# Altium schematic symbol library Schlib.SchLib: 12 symbols
Pins are listed as number, name and electrical type; pins without a type are passive.

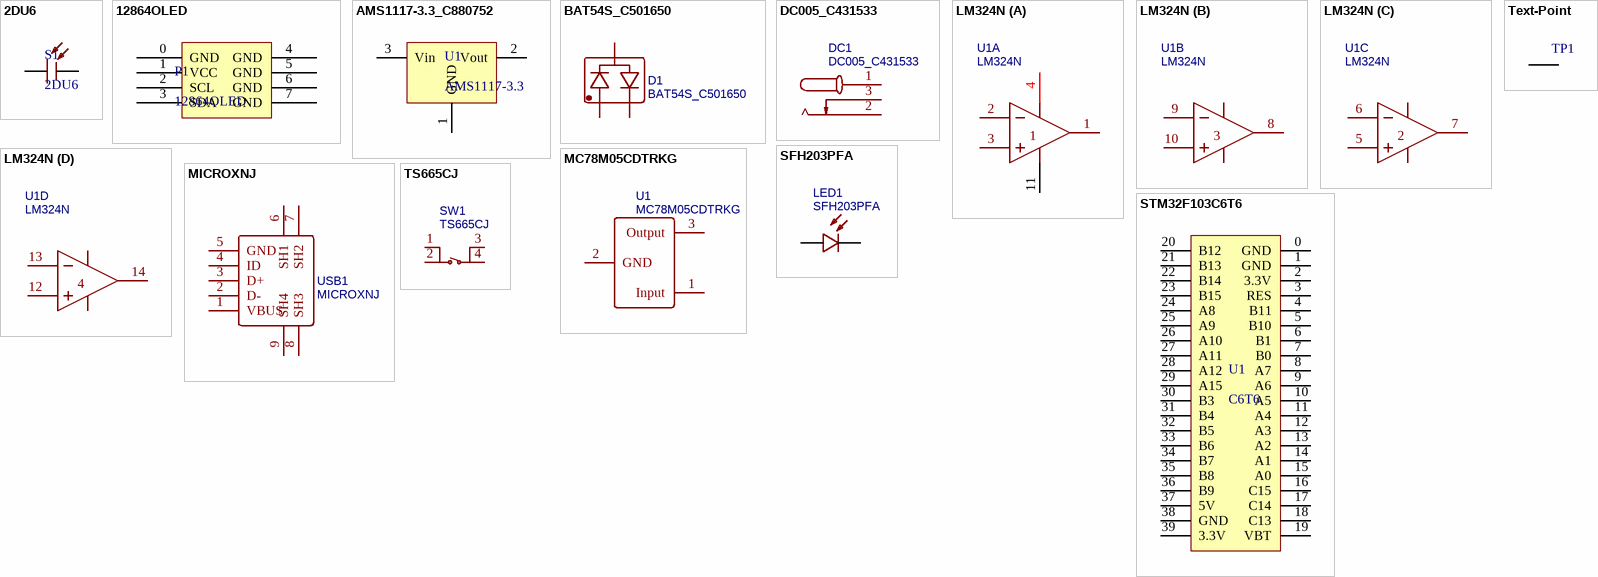
[diagram p0: symbols 2DU6 to TS665CJ]

## 2DU6
designator S1
footprint 2DU6PERSONAL
pins: 1 C, 2 E

## 12864OLED
designator P1
footprint 12864_0.96_OLED
pins: 0 GND, 1 VCC, 2 SCL, 3 SDA, 4 GND, 5 GND, 6 GND, 7 GND

## AMS1117-3.3_C880752
designator U1, comment AMS1117-3.3
footprint SOT-89-3_L4.5-W2.5-P1.50-LS4.2-BR
pins: 1 GND, 2 Vout, 3 Vin

## BAT54S_C501650
designator D1
BOM_Manufacturer: JF; BOM_Manufacturer Part: BAT54S; Contributor: LCSC; BOM_Supplier: LCSC; BOM_Supplier Part: C501650; BOM_JLCPCB Part Class: Extended Part; spicePre: D; spiceSymbolName: BAT54S_C501650
footprint SOT-23-3_L2.9-W1.3-P1.90-LS2.4-BR
pins: 1, 2, 3

## DC005_C431533
designator DC1
BOM_Manufacturer: SHOU HAN; BOM_Manufacturer Part: DC005; Contributor: LCSC; BOM_Supplier: LCSC; BOM_Supplier Part: C431533; BOM_JLCPCB Part Class: Extended Part; spicePre: D; spiceSymbolName: DC005_C431533
footprint DC-IN-TH_DC005
pins: 1, 2, 3

## LM324N
designator U1
BOM_Manufacturer: HGSEMI; subpart_no: 1; BOM_Supplier: LCSC; BOM_Supplier Part: C725320; BOM_Manufacturer Part: LM324N; BOM_JLCPCB Part Class: Extended Part; spicePre: U; spiceSymbolName: LM324N_C725320
footprint DIP-14_L19.4-W6.4-P2.54-LS7.6-BL
footprint SOIC-14_L8.7-W3.9-P1.27-LS6.0-BL
part A pins: 1 OUT1, 2 IN1-, 3 IN1+, 4 VCC, 11 GND
part B pins: 8 OUT3, 9 IN3-, 10 IN3+
part C pins: 5 IN2+, 6 IN2-, 7 OUT2
part D pins: 12 IN4+, 13 IN4-, 14 OUT4

## MC78M05CDTRKG
designator U1
BOM_Manufacturer: ON; BOM_Supplier: LCSC; BOM_Manufacturer Part: MC78M05CDTRKG; BOM_Supplier Part: C20719; BOM_JLCPCB Part Class: Extended Part; spicePre: U; spiceSymbolName: MC78M05CDTRKG
footprint TO-252-2_L6.6-W6.1-P4.57-LS9.9-TL-CW
pins: 1 Input, 2 GND, 3 Output

## MICROXNJ
designator USB1
BOM_Manufacturer: SHOU HAN; Contributor: LCSC; BOM_Supplier: LCSC; BOM_Supplier Part: C404969; BOM_Manufacturer Part: MicroXNJ; BOM_JLCPCB Part Class: Extended Part; spicePre: U; spiceSymbolName: MICROXNJ
footprint MICRO-USB-SMD_MICROXNJ
pins: 1 VBUS, 2 D-, 3 D+, 4 ID, 5 GND, 6 SH1, 7 SH2, 8 SH3, 9 SH4

## SFH203PFA
designator LED1
BOM_Manufacturer: OSRAM Opto Semicon; Contributor: LCSC; BOM_Supplier: LCSC; BOM_Supplier Part: C554984; BOM_Manufacturer Part: SFH203PFA; BOM_JLCPCB Part Class: Extended Part; spicePre: L; spiceSymbolName: SFH203PFA
footprint LED-TH_BD5.9-P2.54-FD
pins: 1 C, 2 E

## STM32F103C6T6
designator U1, comment C6T6
footprint STM32F103C6T6 (Connector; Header; 20X2 Position)
pins: 0 GND, 1 GND, 2 3.3V, 3 RES, 4 B11, 5 B10, 6 B1, 7 B0, 8 A7, 9 A6, 10 A5, 11 A4, 12 A3, 13 A2, 14 A1, 15 A0, 16 C15, 17 C14, 18 C13, 19 VBT, 20 B12, 21 B13, 22 B14, 23 B15, 24 A8, 25 A9, 26 A10, 27 A11, 28 A12, 29 A15, 30 B3, 31 B4, 32 B5, 33 B6, 34 B7, 35 B8, 36 B9, 37 5V, 38 GND, 39 3.3V

## Text-Point
designator TP1, comment TP1  (value not drawn)
footprint TEST-POINT-3MM
footprint TEST-POINT-2.5MM
pins: TP1

## TS665CJ
designator SW1
BOM_Manufacturer: SHOU HAN; Contributor: LCSC; BOM_Supplier: LCSC; BOM_Supplier Part: C393938; BOM_Manufacturer Part: TS665CJ; BOM_JLCPCB Part Class: Extended Part; spicePre: S; spiceSymbolName: TS665CJ
footprint SW-TH_4P-L6.0-W6.0-P4.50-LS6.5
pins: 1 A, 2 B, 3 C, 4 D